# Altium footprint library ROBOT_MOTHERBOARD.PcbLib: 40 footprints (part 1 of 3)
Each footprint in its own frame and in the unit in brackets; x right, y up, seen from the top. Pads: shape width x height; smd on the part's side, far side on the other; paste and mask are expansions set on the pad; w line width, h text height; cw(c..) or ccw(c..) is an arc to the next point about the centre after c.
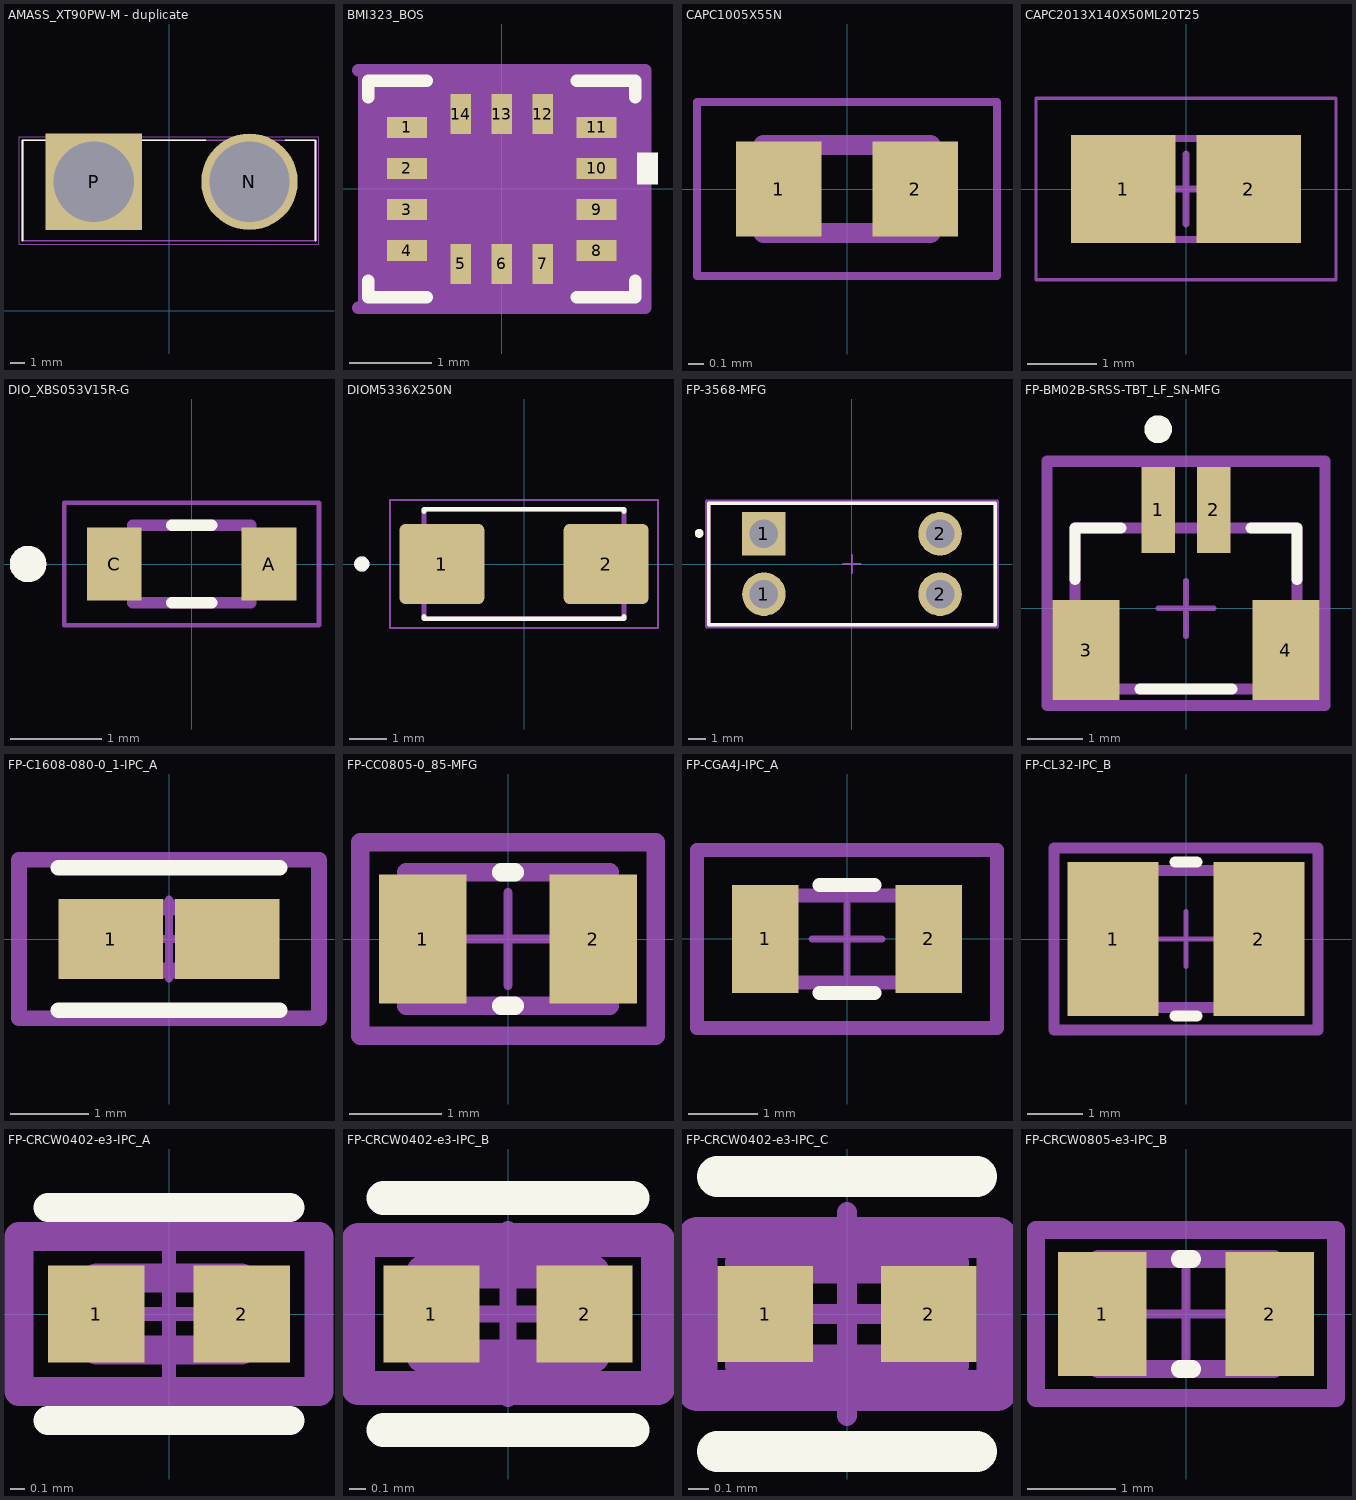
[diagram p0: the footprints below, top view; thin cyan lines are the x and y axes]

## AMASS_XT90PW-M - duplicate [mm]
height 1
pads (2):
  round 6.85 hole 5.7: N(5.715,9.144)
  rect 6.85x6.85 hole 5.7: P(-5.334,9.144)
Top Overlay:
  lines w0.127: -10.4,4.953 -10.4,12.1 -8.25,12.1 ; -2.6,12.1 2.6,12.1 ; 8.25,12.1 10.4,12.1 10.4,4.953
Mechanical 13:
  lines w0.127: -10.4,4.953 10.4,4.953 10.4,12.1 -10.4,12.1 -10.4,4.953
Mechanical 15:
  lines w0.05: -10.65,4.699 10.65,4.699 10.65,12.35 -10.65,12.35 -10.65,4.699
3D body "XT90PB-M.step": height 20.8, standoff -2.7, extent -10.573,3.81 10.827,14.51

## BMI323_BOS [mil]
pads (14):
  rect 19x10 smd paste+0 mask+0: 1(-45.5,29.53) 2(-45.5,9.84) 3(-45.5,-9.84) 4(-45.5,-29.53) 8(45.5,-29.53) 9(45.5,-9.84) 10(45.5,9.84) 11(45.5,29.53)
  rect 10x19 smd paste+0 mask+0: 5(-19.68,-36) 6(0,-36) 7(19.68,-36) 12(19.68,36) 13(0,36) 14(-19.68,36)
Top Overlay:
  region: 65,17.34 75,17.34 75,2.34 65,2.34
  lines w6: -64,-44.05 -64,-52 -36.06,-52 ; -64,44.05 -64,52 -36.06,52 ; 36.06,-52 64,-52 64,-44.05 ; 36.06,52 64,52 64,44.05
Mechanical 13:
  lines w1: -59,-3 -9,47 ; -59,-47 -59,47 59,47 59,-47 -59,-47 ; -59,-34.53 -55,-34.53 -55,-24.53 -59,-24.53 -59,-34.53 ; -59,-14.84 -55,-14.84 -55,-4.84 -59,-4.84 -59,-14.84 ; -59,4.84 -55,4.84 -55,14.84 -59,14.84 -59,4.84 ; -59,24.53 -55,24.53 -55,34.53 -59,34.53 -59,24.53 ; -24.68,-47 -24.68,-45.5 -14.69,-45.5 -14.69,-47 -24.68,-47 ; -24.68,45.5 -24.68,47 -14.69,47 -14.69,45.5 -24.68,45.5 ; -5,-47 -5,-45.5 5,-45.5 5,-47 -5,-47 ; -5,45.5 -5,47 5,47 5,45.5 -5,45.5 ; 14.69,-47 14.69,-45.5 24.68,-45.5 24.68,-47 14.69,-47 ; 14.69,45.5 14.69,47 24.68,47 24.68,45.5 14.69,45.5 ; 55,-34.53 55,-24.53 59,-24.53 59,-34.53 55,-34.53 ; 55,-14.84 55,-4.84 59,-4.84 59,-14.84 55,-14.84 ; 55,4.84 55,14.84 59,14.84 59,4.84 55,4.84 ; 55,24.53 55,34.53 59,34.53 59,24.53 55,24.53
  text "*" at -48.5,14.37 h50
Mechanical 15:
  region: -34.69,-57 -69,-57 -69,-44.53 -69,44.53 -69,57 -34.69,57 34.69,57 69,57 69,44.53 69,-44.53 69,-57 34.69,-57
  lines w6: -69,-57 -34.69,-57 34.69,-57 69,-57 69,-44.53 69,44.53 69,57 34.69,57 -34.69,57 -69,57
3D body "BMI323_BOS.step": height 34.09, standoff 0, extent -59.02,-47.01 59.02,47.01

## CAPC1005X55N [mm]
height 1
pads (2):
  rect 0.54x0.6 smd: 1(-0.432,0) 2(0.432,0)
Mechanical 13:
  lines w0.127: -0.53,-0.28 -0.53,0.28 0.53,0.28 0.53,-0.28 -0.53,-0.28
Mechanical 15:
  lines w0.05: -0.95,-0.55 -0.95,0.55 0.95,0.55 0.95,-0.55 -0.95,-0.55
3D body "step_temp.STEP": height 0.55, standoff 0, extent -0.5,-0.25 0.5,0.25

## CAPC2013X140X50ML20T25 [mm] "Chip Capacitor, 2-Leads, Body 2.00x1.25mm, IPC Low Density"
height 1.4
pads (2):
  rect 1.5x1.55 smd: 1(-0.9,0) 2(0.9,0)
Mechanical 13:
  lines w0.1: -1.1,-0.725 -1.1,0.725 1.1,0.725 1.1,-0.725 -1.1,-0.725
Mechanical 15:
  lines w0.05: -2.15,-1.3 -2.15,1.3 2.15,1.3 2.15,-1.3 -2.15,-1.3
  lines w0.1: -0.5,0 0.5,0 ; 0,-0.5 0,0.5
3D body: height 1.4, standoff 0, extent -0.6,-0.725 0.6,0.725
3D body: height 1.4, standoff 0, extent -1.1,-0.725 -0.6,0.725
3D body: height 1.4, standoff 0, extent 0.6,-0.725 1.1,0.725

## DIO_XBS053V15R-G [mm]
height 1
pads (2):
  rect 0.6x0.8 smd: A(0.85,0) C(-0.85,0)
Top Overlay:
  circle w0.2: c-1.8,0 r0.1
  lines w0.127: -0.22,-0.425 0.22,-0.425 ; -0.22,0.425 0.22,0.425
Mechanical 13:
  circle w0.2: c-1.8,0 r0.1
  lines w0.127: -0.65,-0.425 -0.65,0.425 0.65,0.425 0.65,-0.425 -0.65,-0.425
Mechanical 15:
  lines w0.05: -1.4,-0.675 -1.4,0.675 1.4,0.675 1.4,-0.675 -1.4,-0.675

## DIOM5336X250N [mm]
height 2.5
pads (2):
  rrect15% 2.25x2.13 smd: 1(-2.175,0) 2(2.175,0)
Top Overlay:
  circle w0.2: c-4.3,0 r0.1
  lines w0.127: -2.65,-1.385 -2.65,-1.45 2.65,-1.45 2.65,-1.385 ; -2.65,1.385 -2.65,1.45 2.65,1.45 2.65,1.385
Mechanical 13:
  circle w0.2: c-4.3,0 r0.1
  lines w0.127: -2.65,-1.45 2.65,-1.45 2.65,1.45 -2.65,1.45 -2.65,-1.45
Mechanical 15:
  lines w0.05: -3.55,-1.7 3.55,-1.7 3.55,1.7 -3.55,1.7 -3.55,-1.7
3D body "step_temp.STEP": height 2.5, standoff 0, extent -2.648,-1.81 2.648,1.81

## FP-3568-MFG [mm]
pads (4):
  round 2.45 / inner round 0 / far side round 2.45 hole 1.6 paste-2539.97 mask+0: 1(-4.96,-1.7)
  rect 2.45x2.45 / inner round 0 / far side rect 2.45x2.45 hole 1.6 paste-2539.97 mask+0: 1(-4.96,1.7)
  round 2.45 hole 1.6 paste-2539.97 mask+0: 2(4.96,-1.7) 2(4.96,1.7)
Top Overlay:
  circle w0.25: c-8.6,1.725 r0.125
  lines w0.2: -8.065,-3.43 8.065,-3.43 8.065,3.43 -8.065,3.43 -8.065,-3.43
Top 3D Body:
  lines w0.2: -8.065,-3.43 8.065,-3.43 8.065,3.43 -8.065,3.43 -8.065,-3.43
Top Courtyard:
  lines w0.2: -8.165,-3.53 8.165,-3.53 8.165,3.53 -8.165,3.53 -8.165,-3.53
Top Assembly:
  lines w0.2: -8.165,-3.53 8.165,-3.53 8.165,3.53 -8.165,3.53 -8.165,-3.53
  text ".Designator" at 0,0.188 h1
Top Component Center:
  lines w0.1: -0.5,0 0.5,0 ; 0,-0.5 0,0.5
3D body "Fuse_Keystone_3568_eec.STEP": height 0.25, standoff 0, extent -8.165,-3.53 8.165,3.53

## FP-BM02B-SRSS-TBT_LF_SN-MFG [mm]
height 11.45
pads (4):
  rect 0.6x1.55 smd paste+0 mask+0: 1(-0.5,1.775) 2(0.5,1.775)
  rect 1.2x1.8 smd paste+0 mask+0: 3(-1.8,-0.75) 4(1.8,-0.75)
Top Overlay:
  circle w0.25: c-0.5,3.225 r0.125
  lines w0.2: -2,0.525 -2,1.45 -1.175,1.45 ; -0.825,-1.45 0.825,-1.45 ; 1.175,1.45 2,1.45 2,0.525
Top 3D Body:
  lines w0.2: -2,-1.45 2,-1.45 2,1.45 -2,1.45 -2,-1.45
Top Courtyard:
  lines w0.2: -2.5,-1.75 2.5,-1.75 2.5,2.65 -2.5,2.65 -2.5,-1.75
Top Assembly:
  lines w0.2: -2.5,-1.75 2.5,-1.75 2.5,2.65 -2.5,2.65 -2.5,-1.75
  text ".Designator" at 0,0.638 h1
Top Component Center:
  lines w0.1: -0.5,0 0.5,0 ; 0,-0.5 0,0.5
3D body "Conn_JST_BM02B-SRSS-TBT_LF_SN_eec.STEP": height 0.25, standoff 0, extent -2.5,-1.75 2.5,2.65

## FP-C1608-080-0_1-IPC_A [mm]
height 1
pads (2):
  rect 1.331x1.012 smd paste+0 mask+0: 1(-0.741,0) ""(0.741,0)
Top Overlay:
  lines w0.2: -1.406,-0.906 1.406,-0.906 ; -1.406,0.906 1.406,0.906
Top 3D Body:
  lines w0.2: -0.8,-0.4 0.8,-0.4 0.8,0.4 -0.8,0.4 -0.8,-0.4
Top Courtyard:
  lines w0.2: -1.906,-1.006 1.906,-1.006 1.906,1.006 -1.906,1.006 -1.906,-1.006
Top Assembly:
  lines w0.2: -1.906,-1.006 1.906,-1.006 1.906,1.006 -1.906,1.006 -1.906,-1.006
  text ".Designator" at 0,0.188 h1
Top Component Center:
  lines w0.1: -0.5,0 0.5,0 ; 0,-0.5 0,0.5
3D body "Cap_TDK_C1608X6S0G106K080AB_eec.STEP": height 0.25, standoff 0, extent -1.906,-1.006 1.906,1.006

## FP-CC0805-0_85-MFG [mm]
height 11.45
pads (2):
  rect 0.95x1.4 smd paste+0 mask+0: 1(-0.925,0) 2(0.925,0)
Top Overlay:
  lines w0.2: -0.075,-0.725 0.075,-0.725 ; -0.075,0.725 0.075,0.725
Top 3D Body:
  lines w0.2: -1.1,-0.725 1.1,-0.725 1.1,0.725 -1.1,0.725 -1.1,-0.725
Top Courtyard:
  lines w0.2: -1.6,-1.05 1.6,-1.05 1.6,1.05 -1.6,1.05 -1.6,-1.05
Top Assembly:
  lines w0.2: -1.6,-1.05 1.6,-1.05 1.6,1.05 -1.6,1.05 -1.6,-1.05
  text ".Designator" at 0,0.188 h1
Top Component Center:
  lines w0.1: -0.5,0 0.5,0 ; 0,-0.5 0,0.5
3D body "Cap_Yageo_CC0805KKX7R7BB105_eec.STEP": height 0.25, standoff 0, extent -1.6,-1.05 1.6,1.05

## FP-CGA4J-IPC_A [mm]
height 1
pads (2):
  rect 0.956x1.556 smd paste+0 mask+0: 1(-1.175,0) 2(1.175,0)
Top Overlay:
  lines w0.2: -0.397,-0.778 0.397,-0.778 ; -0.397,0.778 0.397,0.778
Top 3D Body:
  lines w0.2: -1,-0.625 1,-0.625 1,0.625 -1,0.625 -1,-0.625
Top Courtyard:
  lines w0.2: -2.153,-1.278 2.153,-1.278 2.153,1.278 -2.153,1.278 -2.153,-1.278
Top Assembly:
  lines w0.2: -2.153,-1.278 2.153,-1.278 2.153,1.278 -2.153,1.278 -2.153,-1.278
Top Component Center:
  lines w0.1: -0.5,0 0.5,0 ; 0,-0.5 0,0.5
3D body "Cap_TDK_Corporation_CGA4J3X7R1H684M125AB_eec.STEP": height 0.25, standoff 0, extent -2.153,-1.278 2.153,1.278

## FP-CL32-IPC_B [mm]
height 11.45
pads (2):
  rect 1.653x2.804 smd paste+0 mask+0: 1(-1.325,0) 2(1.325,0)
Top Overlay:
  lines w0.2: -0.199,-1.402 0.199,-1.402 ; -0.199,1.402 0.199,1.402
Top 3D Body:
  lines w0.2: -1.6,-1.25 1.6,-1.25 1.6,1.25 -1.6,1.25 -1.6,-1.25
Top Courtyard:
  lines w0.2: -2.402,-1.652 2.402,-1.652 2.402,1.652 -2.402,1.652 -2.402,-1.652
Top Assembly:
  lines w0.2: -2.402,-1.652 2.402,-1.652 2.402,1.652 -2.402,1.652 -2.402,-1.652
  text ".Designator" at 0,0.188 h1
Top Component Center:
  lines w0.1: -0.5,0 0.5,0 ; 0,-0.5 0,0.5
3D body "Cap_Samsung_Electro-Mechanics_America_Inc_CL32C472JBFNNNE_eec.STEP": height 0.25, standoff 0, extent -2.402,-1.652 2.402,1.652

## FP-CRCW0402-e3-IPC_A [mm]
height 1
pads (2):
  rect 0.668x0.672 smd paste+0 mask+0: 1(-0.502,0) 2(0.502,0)
Top Overlay:
  lines w0.2: -0.836,-0.736 0.836,-0.736 ; -0.836,0.736 0.836,0.736
Top 3D Body:
  lines w0.2: -0.5,-0.25 0.5,-0.25 0.5,0.25 -0.5,0.25 -0.5,-0.25
Top Courtyard:
  lines w0.2: -1.036,-0.536 1.036,-0.536 1.036,0.536 -1.036,0.536 -1.036,-0.536
Top Assembly:
  lines w0.2: -1.036,-0.536 1.036,-0.536 1.036,0.536 -1.036,0.536 -1.036,-0.536
Top Component Center:
  lines w0.1: -0.5,0 0.5,0 ; 0,-0.5 0,0.5
3D body "Res_Vishay_CRCW04021K00FKED_eec.STEP": height 0.25, standoff 0, extent -1.036,-0.536 1.036,0.536

## FP-CRCW0402-e3-IPC_B [mm]
height 1
pads (2):
  rect 0.568x0.572 smd paste+0 mask+0: 1(-0.452,0) 2(0.452,0)
Top Overlay:
  lines w0.2: -0.736,-0.686 0.736,-0.686 ; -0.736,0.686 0.736,0.686
Top 3D Body:
  lines w0.2: -0.5,-0.25 0.5,-0.25 0.5,0.25 -0.5,0.25 -0.5,-0.25
Top Courtyard:
  lines w0.2: -0.886,-0.436 0.886,-0.436 0.886,0.436 -0.886,0.436 -0.886,-0.436
Top Assembly:
  lines w0.2: -0.886,-0.436 0.886,-0.436 0.886,0.436 -0.886,0.436 -0.886,-0.436
Top Component Center:
  lines w0.1: -0.5,0 0.5,0 ; 0,-0.5 0,0.5
3D body "Res_Vishay_CRCW04021K00FKED_eec.STEP": height 0.25, standoff 0, extent -0.886,-0.436 0.886,0.436

## FP-CRCW0402-e3-IPC_C [mm]
height 1
pads (2):
  rect 0.468x0.472 smd paste+0 mask+0: 1(-0.402,0) 2(0.402,0)
Top Overlay:
  lines w0.2: -0.636,-0.675 0.636,-0.675 ; -0.636,0.675 0.636,0.675
Top 3D Body:
  lines w0.2: -0.5,-0.25 -0.5,0.25 0.5,0.25 0.5,-0.25 -0.5,-0.25
Top Courtyard:
  lines w0.2: -0.736,-0.375 -0.736,0.375 0.736,0.375 0.736,-0.375 -0.736,-0.375
Top Assembly:
  lines w0.2: -0.736,-0.375 -0.736,0.375 0.736,0.375 0.736,-0.375 -0.736,-0.375
Top Component Center:
  lines w0.1: -0.5,0 0.5,0 ; 0,-0.5 0,0.5
3D body "Res_Vishay_CRCW04021K00FKED_eec.STEP": height 0.25, standoff 0, extent -0.736,-0.375 0.736,0.375

## FP-CRCW0805-e3-IPC_B [mm]
pads (2):
  rect 1.007x1.408 smd paste+0 mask+0: 1(-0.951,0) 2(0.951,0)
Top Overlay:
  lines w0.2: -0.073,-0.625 0.073,-0.625 ; -0.073,0.625 0.073,0.625
Top 3D Body:
  lines w0.2: -1,-0.625 -1,0.625 1,0.625 1,-0.625 -1,-0.625
Top Courtyard:
  lines w0.2: -1.704,-0.954 -1.704,0.954 1.704,0.954 1.704,-0.954 -1.704,-0.954
Top Assembly:
  lines w0.2: -1.704,-0.954 -1.704,0.954 1.704,0.954 1.704,-0.954 -1.704,-0.954
  text ".Designator" at 0,0.188 h1
Top Component Center:
  lines w0.1: -0.5,0 0.5,0 ; 0,-0.5 0,0.5
3D body "Res_Vishay_CRCW0805100KFKEA_eec.STEP": height 0.25, standoff 0, extent -1.704,-0.954 1.704,0.954